# EAGLE library part 25LC1024-E/SM (library 25LC1024)
IC EEPROM 1MBIT 20MHZ ,SOIC-8
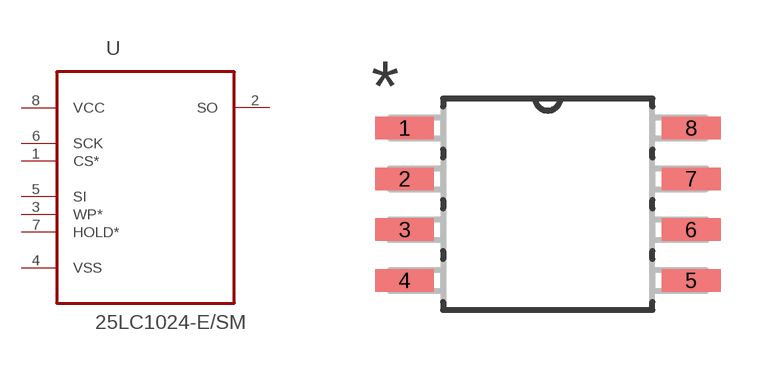
[diagram p0: symbol with the pads of SOIC127P794X203-8N; footprint SOIC127P794X203-8N]

Designator prefix U

## 25LC1024-E/SM (MPN: 25LC1024-E/SM; OC_FARNELL: 2098001; OC_NEWARK: 89H3174; PACKAGE: SOIJ-8; SUPPLIER: Microchip)  [SOIC127P794X203-8N]
1  CS*  in
2  SO  out
3  WP*  in
4  VSS  pas
5  SI  in
6  SCK  in
7  HOLD*  in
8  VCC  pwr

## Footprint SOIC127P794X203-8N (pad centres in mm)
smd 1.473 x 0.559: 1 -3.581,1.905; 2 -3.581,0.635; 3 -3.581,-0.635; 4 -3.581,-1.905; 5 3.581,-1.905; 6 3.581,-0.635; 7 3.581,0.635; 8 3.581,1.905